# Altium schematic symbol library IPZ40N04S5L.Schlib: 1 symbol
Pins are listed as number, name and electrical type; pins without a type are passive.

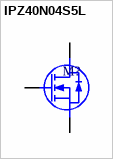
[diagram p0: symbol IPZ40N04S5L]

## IPZ40N04S5L
designator M?
40V 40A N-Channel
pins: 1 S, 2 G, 3 D